# EAGLE library part USB_MICRO_VERTICAL (library 08_CONECTOR)
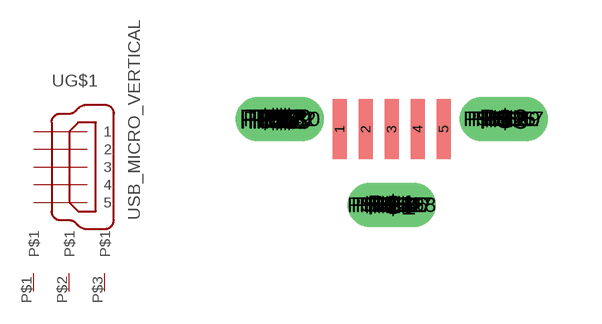
[diagram p11: symbol with the pads of USB_MICRO_VERTICAL; footprint USB_MICRO_VERTICAL]

Designator prefix -; gates G$1=USB G$2=SHIELD G$3=SHIELD G$4=SHIELD

## USB_MICRO_VERTICAL  [USB_MICRO_VERTICAL]
1  G$1:1  in
2  G$1:2  in
3  G$1:3  in
4  G$1:4  in
5  G$1:5  in
P$1  G$2:P$1
P$2  G$3:P$1
P$3  G$4:P$1

## Footprint USB_MICRO_VERTICAL (pad centres in mm)
smd 0.35 x 1.5: 1 -1.3,0.825; 2 -0.65,0.825; 3 0,0.825; 4 0.65,0.825; 5 1.3,0.825
drill 0.6 long: P$1 0,-1.075; P$2 -2.8,1.075; P$3 2.8,1.075
drill 0.5: P$4 -2.8,1.075; P$11 2.8,1.075
drill 0.6: P$5 -2.9,1.075; P$6 -3,1.075; P$7 -3.2,1.075; P$8 -2.7,1.075; P$9 -2.6,1.075; P$10 -2.4,1.075; P$12 2.7,1.075; P$13 2.6,1.075; P$14 2.4,1.075; P$15 2.9,1.075; P$16 3,1.075; P$17 3.2,1.075; P$18 0,-1.075; P$19 -0.1,-1.075; P$20 -0.2,-1.075; P$21 -0.3,-1.075; P$22 -0.4,-1.075; P$23 -0.5,-1.075; P$24 0.1,-1.075; P$25 0.2,-1.075; P$26 0.3,-1.075; P$27 0.4,-1.075; P$28 0.5,-1.075; P$29 3.1,1.075; P$30 -3.1,1.075; P$31 2.5,1.075; P$32 -2.5,1.075